# Altium schematic symbol library LM27313.SchLib: 1 symbol
Pins are listed as number, name and electrical type; pins without a type are passive.

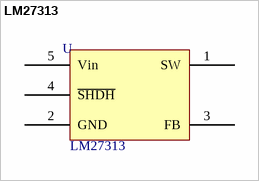
[diagram p0: symbol LM27313]

## LM27313
designator U  value LM27313  (hidden comment: *)
Manufacturer Code: LM27313XMF/NOPB; Manufacturer: Texas Instruments; Output Current: 800mA; Input Voltage: 14V Max.; Output Voltage: 5~28V; Farnell Code: 1564771; Unit Price: 1,55 €; MOQ: 1
footprint SOT23-5
pins: 1 SW, 2 GND, 3 FB, 4 ~{SHDH}, 5 Vin